# EAGLE library part TPS61230A (library pimoroni-ics)
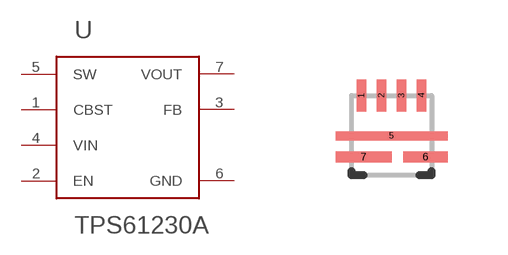
[diagram p56: symbol with the pads of TPS61230A; footprint TPS61230A]

Designator prefix -

## TPS61230A  [TPS61230A]
1  CBST
2  EN
3  FB
4  VIN
5  SW
6  GND
7  VOUT

## Footprint TPS61230A (pad centres in mm)
smd 0.23 x 0.8: 1 -0.75,1; 2 -0.25,1; 3 0.25,1; 4 0.75,1
smd 2.8 x 0.23: 5 0,-0.015
smd 1.1 x 0.28: 6 0.85,-0.54
smd 1.4 x 0.28: 7 -0.7,-0.54